# EAGLE library part BTS612N1_E3128A (library PROFET - Infineon)
BTS612N1_E3128A Smart Two Channel High-Side Power Switch TO127P1500X440-7_8N
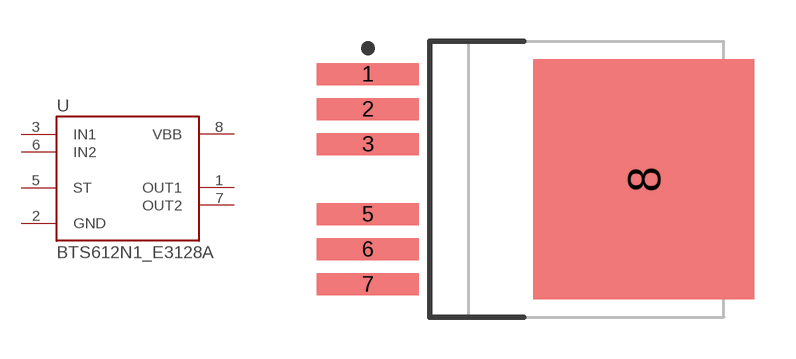
[diagram p44: symbol with the pads of TO127P1500X440-7_8N; footprint TO127P1500X440-7_8N]

Designator prefix U

## BTS612N1_E3128A  [TO127P1500X440-7_8N]
1  OUT1  out
2  GND  pwr
3  IN1  in
5  ST  pas
6  IN2  in
7  OUT2  out
8  VBB  pwr

## Footprint TO127P1500X440-7_8N (pad centres in mm)
Original name TO127P1500X440-7_8N Max Component Height - 4.40mm
smd 3.7 x 0.8: 1 -6.1,3.81; 2 -6.1,2.54; 3 -6.1,1.27; 5 -6.1,-1.27; 6 -6.1,-2.54; 7 -6.1,-3.81
smd 8 x 8.7: 8 3.9,0